# EAGLE library part 61303021121 (library Board_to_Board_Connectors_rev15d)
WR-PHD 2.54mm Dual Pin Header, 30 Pins =>Code : Con_BTB_PHD_2.54_2_61303021121 <http://katalog.we-online.de/media/images/eican/Con_BTB_PHD_2.54_2_6130xx21121_pf2.jpg> Details see: http://katalog.we-online.de/en/em/613_0xx_211_21 Created 2014-05-29, Karrer Zheng 2014 (C) Würth Elektronik
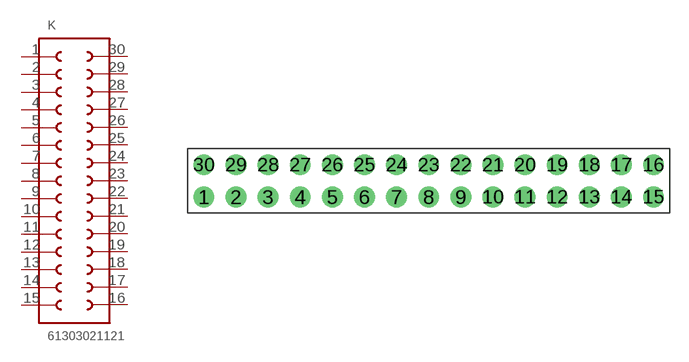
[diagram p30: symbol with the pads of 61303021121; footprint 61303021121]

Designator prefix K

## 61303021121  [61303021121]
1  1  pas
2  2  pas
3  3  pas
4  4  pas
5  5  pas
6  6  pas
7  7  pas
8  8  pas
9  9  pas
10  10  pas
11  11  pas
12  12  pas
13  13  pas
14  14  pas
15  15  pas
16  16  pas
17  17  pas
18  18  pas
19  19  pas
20  20  pas
21  21  pas
22  22  pas
23  23  pas
24  24  pas
25  25  pas
26  26  pas
27  27  pas
28  28  pas
29  29  pas
30  30  pas

## Footprint 61303021121 (pad centres in mm)
WR-PHD 2.54mm Dual Pin Header, 30 Pins
drill 1.1: 1 -17.78,-1.27; 2 -15.24,-1.27; 3 -12.7,-1.27; 4 -10.16,-1.27; 5 -7.62,-1.27; 6 -5.08,-1.27; 7 -2.54,-1.27; 8 0,-1.27; 9 2.54,-1.27; 10 5.08,-1.27; 11 7.62,-1.27; 12 10.16,-1.27; 13 12.7,-1.27; 14 15.24,-1.27; 15 17.78,-1.27; 16 17.78,1.27; 17 15.24,1.27; 18 12.7,1.27; 19 10.16,1.27; 20 7.62,1.27; 21 5.08,1.27; 22 2.54,1.27; 23 0,1.27; 24 -2.54,1.27; 25 -5.08,1.27; 26 -7.62,1.27; 27 -10.16,1.27; 28 -12.7,1.27; 29 -15.24,1.27; 30 -17.78,1.27